# Altium schematic symbol library MCF51AC256.Schlib: 2 symbols
Pins are listed as number, name and electrical type; pins without a type are passive.

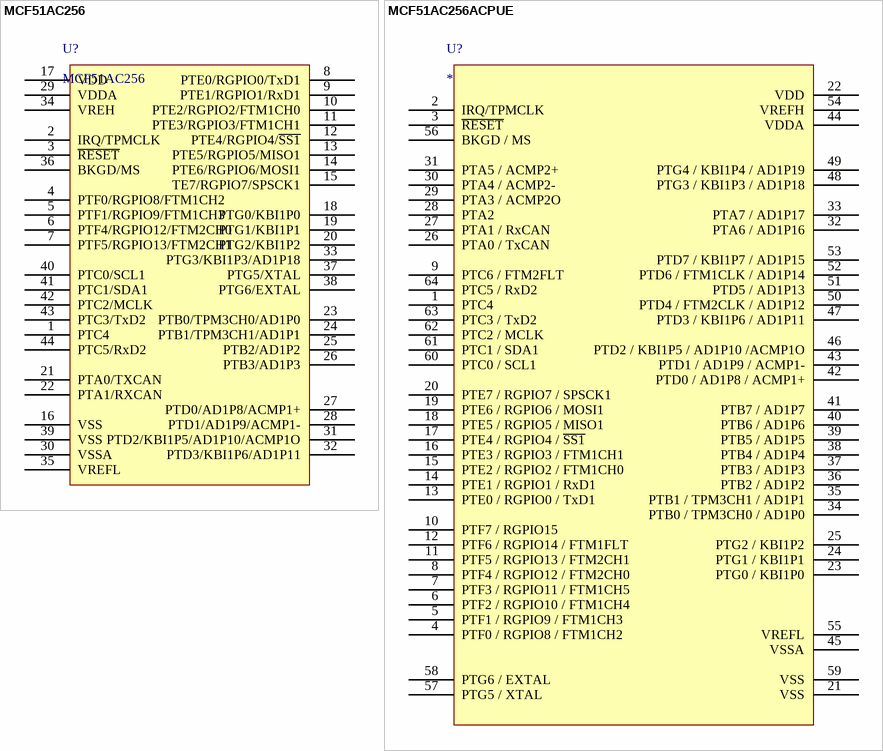
[diagram p0: symbols MCF51AC256 to MCF51AC256ACPUE]

## MCF51AC256
designator U?
pins: 1 PTC4, 2 IRQ/TPMCLK, 3 ~{RESET}, 4 PTF0/RGPIO8/FTM1CH2, 5 PTF1/RGPIO9/FTM1CH3, 6 PTF4/RGPIO12/FTM2CH0, 7 PTF5/RGPIO13/FTM2CH1, 8 PTE0/RGPIO0/TxD1, 9 PTE1/RGPIO1/RxD1, 10 PTE2/RGPIO2/FTM1CH0, 11 PTE3/RGPIO3/FTM1CH1, 12 PTE4/RGPIO4/~{SS1}, 13 PTE5/RGPIO5/MISO1, 14 PTE6/RGPIO6/MOSI1, 15 TE7/RGPIO7/SPSCK1, 16 VSS, 17 VDD, 18 PTG0/KBI1P0, 19 PTG1/KBI1P1, 20 PTG2/KBI1P2, 21 PTA0/TXCAN, 22 PTA1/RXCAN, 23 PTB0/TPM3CH0/AD1P0, 24 PTB1/TPM3CH1/AD1P1, 25 PTB2/AD1P2, 26 PTB3/AD1P3, 27 PTD0/AD1P8/ACMP1+, 28 PTD1/AD1P9/ACMP1-, 29 VDDA, 30 VSSA, 31 PTD2/KBI1P5/AD1P10/ACMP1O, 32 PTD3/KBI1P6/AD1P11, 33 PTG3/KBI1P3/AD1P18, 34 VREH, 35 VREFL, 36 BKGD/MS, 37 PTG5/XTAL, 38 PTG6/EXTAL, 39 VSS, 40 PTC0/SCL1, 41 PTC1/SDA1, 42 PTC2/MCLK, 43 PTC3/TxD2, 44 PTC5/RxD2

## MCF51AC256ACPUE
designator U?
pins: 1 PTC4, 2 IRQ/TPMCLK, 3 ~{RESET}, 4 PTF0 / RGPIO8 / FTM1CH2, 5 PTF1 / RGPIO9 / FTM1CH3, 6 PTF2 / RGPIO10 / FTM1CH4, 7 PTF3 / RGPIO11 / FTM1CH5, 8 PTF4 / RGPIO12 / FTM2CH0, 9 PTC6 / FTM2FLT, 10 PTF7 / RGPIO15, 11 PTF5 / RGPIO13 / FTM2CH1, 12 PTF6 / RGPIO14 / FTM1FLT, 13 PTE0 / RGPIO0 / TxD1, 14 PTE1 / RGPIO1 / RxD1, 15 PTE2 / RGPIO2 / FTM1CH0, 16 PTE3 / RGPIO3 / FTM1CH1, 17 PTE4 / RGPIO4 / ~{SS1}, 18 PTE5 / RGPIO5 / MISO1, 19 PTE6 / RGPIO6 / MOSI1, 20 PTE7 / RGPIO7 / SPSCK1, 21 VSS, 22 VDD, 23 PTG0 / KBI1P0, 24 PTG1 / KBI1P1, 25 PTG2 / KBI1P2, 26 PTA0 / TxCAN, 27 PTA1 / RxCAN, 28 PTA2, 29 PTA3 / ACMP2O, 30 PTA4 / ACMP2-, 31 PTA5 / ACMP2+, 32 PTA6 / AD1P16, 33 PTA7 / AD1P17, 34 PTB0 / TPM3CH0 / AD1P0, 35 PTB1 / TPM3CH1 / AD1P1, 36 PTB2 / AD1P2, 37 PTB3 / AD1P3, 38 PTB4 / AD1P4, 39 PTB5 / AD1P5, 40 PTB6 / AD1P6, 41 PTB7 / AD1P7, 42 PTD0 / AD1P8 / ACMP1+, 43 PTD1 / AD1P9 / ACMP1-, 44 VDDA, 45 VSSA, 46 PTD2 / KBI1P5 / AD1P10 /ACMP1O, 47 PTD3 / KBI1P6 / AD1P11, 48 PTG3 / KBI1P3 / AD1P18, 49 PTG4 / KBI1P4 / AD1P19, 50 PTD4 / FTM2CLK / AD1P12, 51 PTD5 / AD1P13, 52 PTD6 / FTM1CLK / AD1P14, 53 PTD7 / KBI1P7 / AD1P15, 54 VREFH, 55 VREFL, 56 BKGD / MS, 57 PTG5 / XTAL, 58 PTG6 / EXTAL, 59 VSS, 60 PTC0 / SCL1, 61 PTC1 / SDA1, 62 PTC2 / MCLK, 63 PTC3 / TxD2, 64 PTC5 / RxD2